# EAGLE library part ED060SC4_EINK (library hirose-flex)
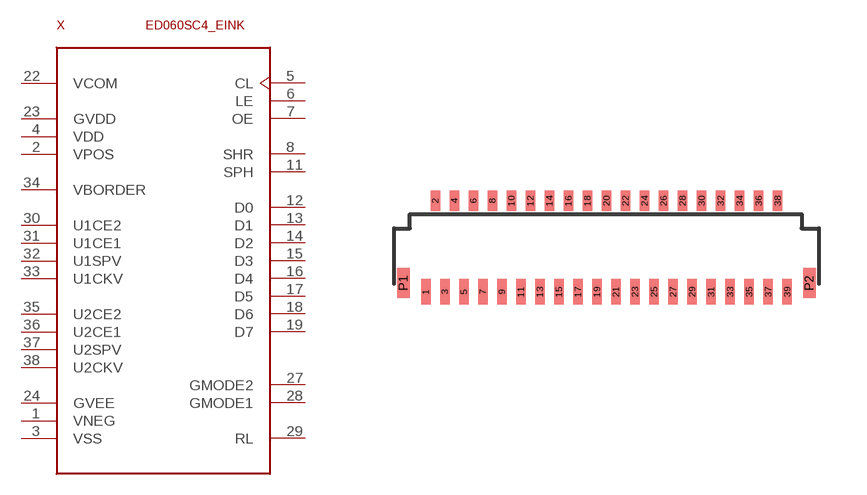
[diagram p0: symbol with the pads of FH26-39S-0.3SHW; footprint FH26-39S-0.3SHW]

Designator prefix X

## ED060SC4_EINK  [FH26-39S-0.3SHW]
1  VNEG
2  VPOS
3  VSS
4  VDD
5  CL
6  LE
7  OE
8  SHR
11  SPH
12  D0
13  D1
14  D2
15  D3
16  D4
17  D5
18  D6
19  D7
22  VCOM
23  GVDD
24  GVEE
27  GMODE2
28  GMODE1
29  RL
30  U1CE2
31  U1CE1
32  U1SPV
33  U1CKV
34  VBORDER
35  U2CE2
36  U2CE1
37  U2SPV
38  U2CKV

## Footprint FH26-39S-0.3SHW (pad centres in mm)
smd 0.3 x 0.8: 1 0,0; 3 0.6,0; 5 1.2,0; 7 1.8,0; 9 2.4,0; 11 3,0; 13 3.6,0; 15 4.2,0; 17 4.8,0; 19 5.4,0; 21 6,0; 23 6.6,0; 25 7.2,0; 27 7.8,0; 29 8.4,0; 31 9,0; 33 9.6,0; 35 10.2,0; 37 10.8,0; 39 11.4,0
smd 0.3 x 0.65: 2 0.3,2.875; 4 0.9,2.875; 6 1.5,2.875; 8 2.1,2.875; 10 2.7,2.875; 12 3.3,2.875; 14 3.9,2.875; 16 4.5,2.875; 18 5.1,2.875; 20 5.7,2.875; 22 6.3,2.875; 24 6.9,2.875; 26 7.5,2.875; 28 8.1,2.875; 30 8.7,2.875; 32 9.3,2.875; 34 9.9,2.875; 36 10.5,2.875; 38 11.1,2.875
smd 0.4 x 0.95: P1 -0.7,0.275; P2 12.1,0.275